# Altium footprint library con-molex-micro-fit-3_0.PCBLIB: 194 footprints (part 9 of 13)
Each footprint in its own frame and in the unit in brackets; x right, y up, seen from the top. Pads: shape width x height; smd on the part's side, far side on the other; paste and mask are expansions set on the pad; w line width, h text height; cw(c..) or ccw(c..) is an arc to the next point about the centre after c.
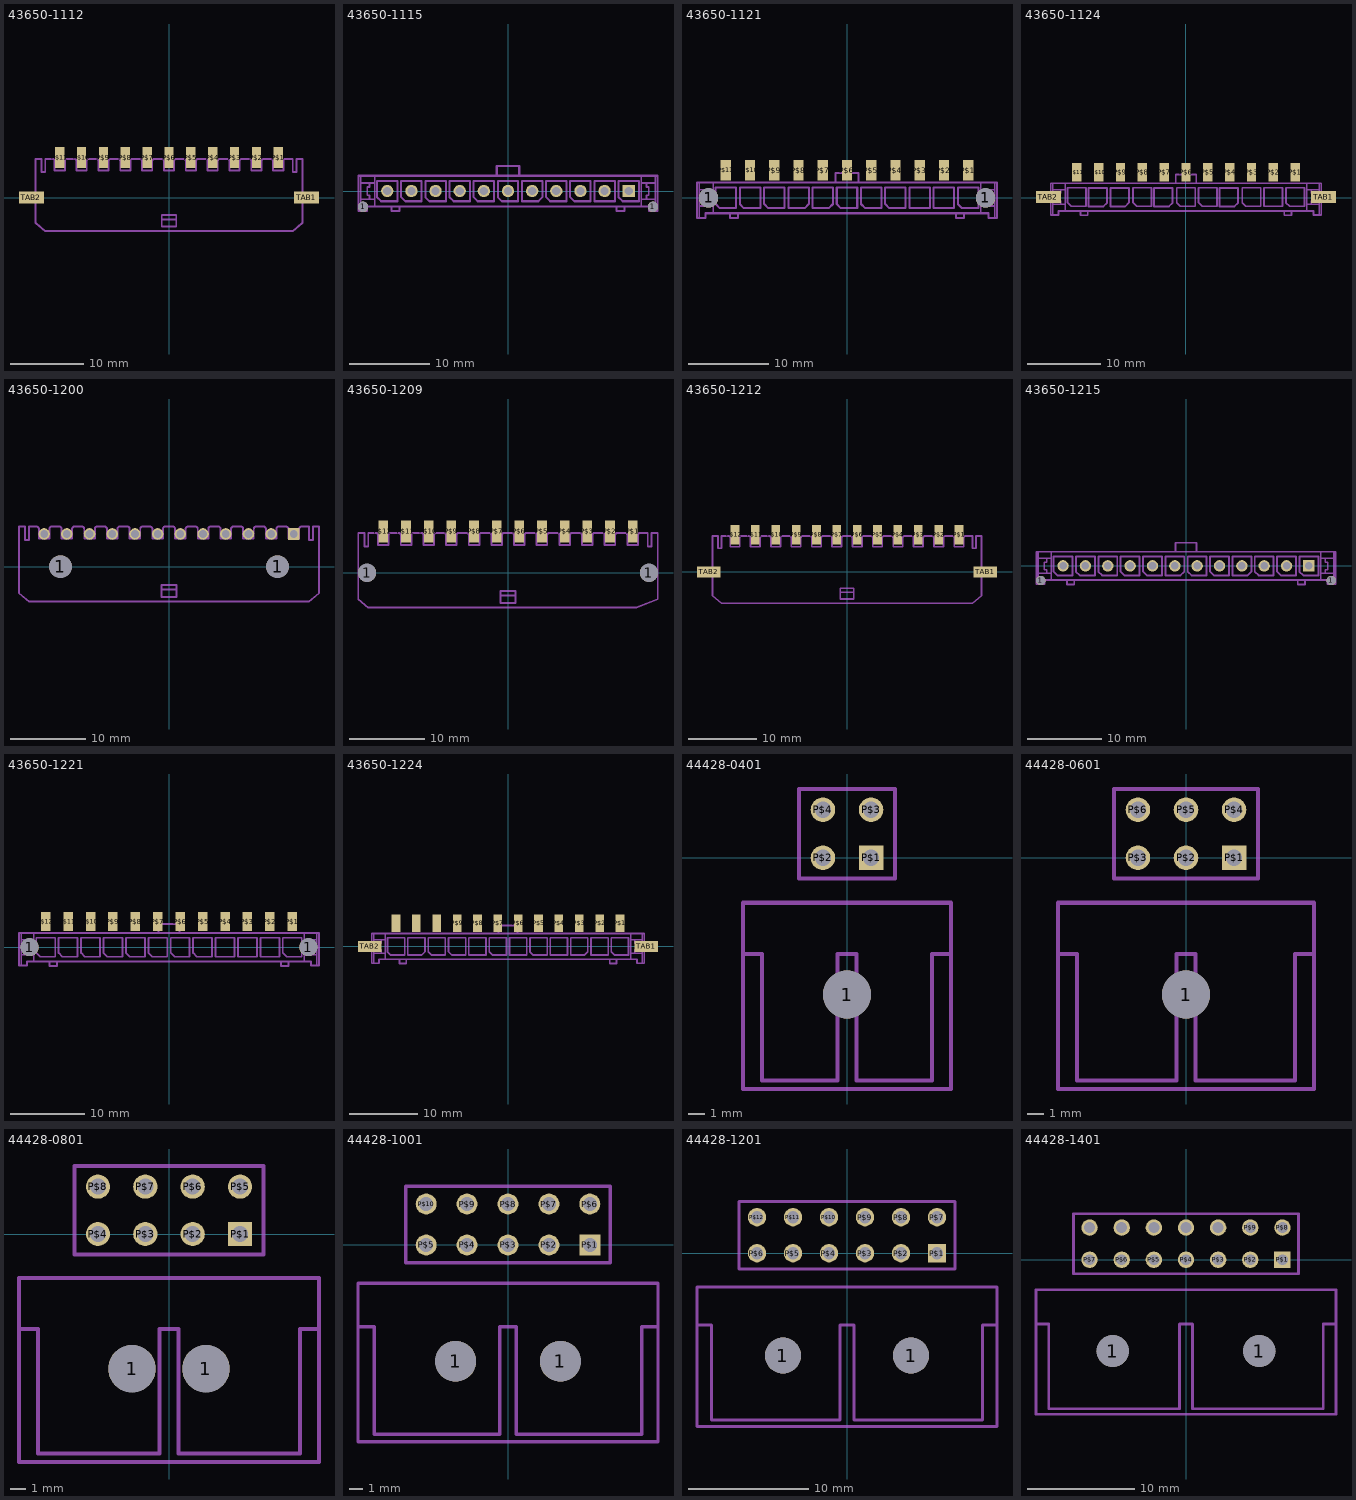
[diagram p8: the footprints below, top view; thin cyan lines are the x and y axes]

## 43650-1112 [mm]
pads (13):
  rect 1.27x2.92 smd: P$1(15,5.48) P$2(12,5.48) P$3(9,5.48) P$4(6,5.48) P$5(3,5.48) P$6(0,5.48) P$7(-3,5.48) P$8(-6,5.48) P$9(-9,5.48) P$10(-12,5.48) P$11(-15,5.48)
  rect 3.43x1.65 smd: TAB1(18.88,0) TAB2(-18.88,0)
Mechanical 2:
  lines w0.254: -1,-3 -1,-4 1,-4 1,-3 ; -1,-3 -1,-2.4 1,-2.4 1,-3 ; -1,-3 1,-3 ; -18.32,-3.5 -18.32,5.3 -17.5,5.3 -17.5,3.5 -17,3.5 -17,5.3 -16,5.3 cw(c-16,5) -15.7,5 -15.7,3.7 -14.3,3.7 -14.3,5 cw(c-14,5) -14,5.3 -13,5.3 cw(c-13,5) -12.7,5 -12.7,3.7 -11.3,3.7 -11.3,5 cw(c-11,5) -11,5.3 -10,5.3 cw(c-10,5) -9.7,5 -9.7,3.7 -8.3,3.7 -8.3,5 cw(c-8,5) -8,5.3 -7,5.3 cw(c-7,5) -6.7,5 -6.7,3.7 -5.3,3.7 -5.3,5 cw(c-5,5) -5,5.3 -4,5.3 cw(c-4,5) -3.7,5 -3.7,3.7 -2.3,3.7 -2.3,5 cw(c-2,5) -2,5.3 -1,5.3 cw(c-1,5) -0.7,5 -0.7,3.7 0.7,3.7 0.7,5 cw(c1,5) 1,5.3 2,5.3 cw(c2,5) 2.3,5 2.3,3.7 3.7,3.7 3.7,5 cw(c4,5) 4,5.3 5,5.3 cw(c5,5) 5.3,5 5.3,3.7 6.7,3.7 6.7,5 cw(c7,5) 7,5.3 8,5.3 cw(c8,5) 8.3,5 8.3,3.7 9.7,3.7 9.7,5 cw(c10,5) 10,5.3 11,5.3 cw(c11,5) 11.3,5 11.3,3.7 12.7,3.7 12.7,5 cw(c13,5) 13,5.3 14,5.3 cw(c13.95,4.95) 14.3,5 14.3,3.7 15.7,3.7 15.7,5 cw(c16,5) 16,5.3 17,5.3 17,3.5 17.5,3.5 17.5,5.3 18.32,5.3 18.32,-3.5 17,-4.6 -17,-4.6 -18.32,-3.5

## 43650-1115 [mm]
pads (13):
  round 1.27 hole 1.27: 1(-18,-1.96) 1(18,-1.96)
  rect 1.53x1.53 hole 1.02: P$1(15,0)
  round 1.53 hole 1.02: P$2(12,0) P$3(9,0) P$4(6,0) P$5(3,0) P$6(0,0) P$7(-3,0) P$8(-6,0) P$9(-9,0) P$10(-12,0) P$11(-15,0)
Mechanical 2:
  lines w0.2: -18.3,-2.47 -18.3,-1 ; -18.3,1.9 -18.3,1 ; -16.57,-1.9 -16.57,-1 ; -16.57,1.9 -16.57,1 ; 16.57,-1.9 16.57,-1 ; 16.57,1.9 16.57,1 ; 18.3,-2.47 18.3,-1 ; 18.3,1.9 18.3,1 ; -18.3,-1 -18.3,1 ; -18.3,-1 -17.2,-1 ; -18.3,1 -17.2,1 ; -17.2,-1 -16.57,-1 ; -17.2,-1 -17.2,-0.5 -17.5,-0.5 -17.5,0.5 -17.2,0.5 -17.2,1 ; -17.2,1 -16.57,1 ; -16.57,-1 -16.57,1 ; 16.57,-1 16.57,1 ; 16.57,-1 17.2,-1 ; 16.57,1 17.2,1 ; 17.2,-1 18.3,-1 ; 17.2,-1 17.2,-0.5 17.5,-0.5 17.5,0.5 17.2,0.5 17.2,1 ; 17.2,1 18.3,1 ; 18.3,-1 18.3,1
  lines w0.254: -14.5,-1.9 -13.5,-1.9 ; -14.5,-1.9 -16.57,-1.9 -17.5,-1.9 -17.5,-2.47 -18.3,-2.47 -18.575,-2.47 -18.575,1.9 -18.3,1.9 -16.57,1.9 -1.4,1.9 ; -14.5,-1.9 -14.5,-2.5 -13.5,-2.5 -13.5,-1.9 ; -13.5,-1.9 13.5,-1.9 ; -1.4,1.9 1.4,1.9 ; -1.4,1.9 -1.4,3.1 1.4,3.1 1.4,1.9 ; 1.4,1.9 16.57,1.9 18.3,1.9 18.575,1.9 18.575,-2.47 18.3,-2.47 17.5,-2.47 17.5,-1.9 16.57,-1.9 14.5,-1.9 ; 13.5,-1.9 14.5,-1.9 ; 13.5,-1.9 13.5,-2.5 14.5,-2.5 14.5,-1.9 ; -16.27,-0.762 -16.27,1.27 -13.73,1.27 -13.73,-1.27 -15.762,-1.27 -16.27,-0.762 ; -13.27,-0.762 -13.27,1.27 -10.73,1.27 -10.73,-1.27 -12.762,-1.27 -13.27,-0.762 ; -10.27,-0.762 -10.27,1.27 -7.73,1.27 -7.73,-1.27 -9.762,-1.27 -10.27,-0.762 ; -7.27,-0.762 -7.27,1.27 -4.73,1.27 -4.73,-1.27 -6.762,-1.27 -7.27,-0.762 ; -4.27,-0.762 -4.27,1.27 -1.73,1.27 -1.73,-1.27 -3.762,-1.27 -4.27,-0.762 ; -1.27,-0.762 -1.27,1.27 1.27,1.27 1.27,-1.27 -0.762,-1.27 -1.27,-0.762 ; 1.73,-1.27 1.73,1.27 4.27,1.27 4.27,-0.762 3.762,-1.27 1.73,-1.27 ; 4.73,-0.762 4.73,1.27 7.27,1.27 7.27,-1.27 5.238,-1.27 4.73,-0.762 ; 7.73,-0.762 7.73,1.27 10.27,1.27 10.27,-1.27 8.238,-1.27 7.73,-0.762 ; 10.73,-1.27 10.73,1.27 13.27,1.27 13.27,-1.27 10.73,-1.27 ; 13.73,-0.762 13.73,1.27 16.27,1.27 16.27,-1.27 14.238,-1.27 13.73,-0.762

## 43650-1121 [mm]
pads (13):
  round 2.41 hole 2.41: 1(-17.15,0) 1(17.15,0)
  rect 1.27x2.54 smd: P$1(15,3.43) P$2(12,3.43) P$3(9,3.43) P$4(6,3.43) P$5(3,3.43) P$6(0,3.43) P$7(-3,3.43) P$8(-6,3.43) P$9(-9,3.43) P$10(-12,3.43) P$11(-15,3.43)
Mechanical 2:
  lines w0.2: -18.3,-2.47 -18.3,-1 ; -18.3,1.9 -18.3,1 ; -16.57,-1.9 -16.57,-1 ; -16.57,1.9 -16.57,1 ; 16.57,-1.9 16.57,-1 ; 16.57,1.9 16.57,1 ; 18.3,-2.47 18.3,-1 ; 18.3,1.9 18.3,1 ; -18.3,-1 -18.3,1 ; -18.3,-1 -17.2,-1 ; -18.3,1 -17.2,1 ; -17.2,-1 -16.57,-1 ; -17.2,-1 -17.2,-0.5 -17.5,-0.5 -17.5,0.5 -17.2,0.5 -17.2,1 ; -17.2,1 -16.57,1 ; -16.57,-1 -16.57,1 ; 16.57,-1 16.57,1 ; 16.57,-1 17.2,-1 ; 16.57,1 17.2,1 ; 17.2,-1 18.3,-1 ; 17.2,-1 17.2,-0.5 17.5,-0.5 17.5,0.5 17.2,0.5 17.2,1 ; 17.2,1 18.3,1 ; 18.3,-1 18.3,1
  lines w0.254: -14.5,-1.9 -13.5,-1.9 ; -14.5,-1.9 -16.57,-1.9 -17.5,-1.9 -17.5,-2.47 -18.3,-2.47 -18.575,-2.47 -18.575,1.9 -18.3,1.9 -16.57,1.9 -1.4,1.9 ; -14.5,-1.9 -14.5,-2.5 -13.5,-2.5 -13.5,-1.9 ; -13.5,-1.9 13.5,-1.9 ; -1.4,1.9 1.4,1.9 ; -1.4,1.9 -1.4,3.1 1.4,3.1 1.4,1.9 ; 1.4,1.9 16.57,1.9 18.3,1.9 18.575,1.9 18.575,-2.47 18.3,-2.47 17.5,-2.47 17.5,-1.9 16.57,-1.9 14.5,-1.9 ; 13.5,-1.9 14.5,-1.9 ; 13.5,-1.9 13.5,-2.5 14.5,-2.5 14.5,-1.9 ; -16.27,-0.762 -16.27,1.27 -13.73,1.27 -13.73,-1.27 -15.762,-1.27 -16.27,-0.762 ; -13.27,-0.762 -13.27,1.27 -10.73,1.27 -10.73,-1.27 -12.762,-1.27 -13.27,-0.762 ; -10.27,-0.762 -10.27,1.27 -7.73,1.27 -7.73,-1.27 -9.762,-1.27 -10.27,-0.762 ; -7.27,-1.27 -7.27,1.27 -4.73,1.27 -4.73,-0.762 -5.238,-1.27 -7.27,-1.27 ; -4.27,-1.27 -4.27,1.27 -1.73,1.27 -1.73,-0.762 -2.238,-1.27 -4.27,-1.27 ; -1.27,-0.762 -1.27,1.27 1.27,1.27 1.27,-1.27 -0.762,-1.27 -1.27,-0.762 ; 1.73,-0.762 1.73,1.27 4.27,1.27 4.27,-1.27 2.238,-1.27 1.73,-0.762 ; 4.73,-0.762 4.73,1.27 7.27,1.27 7.27,-1.27 5.238,-1.27 4.73,-0.762 ; 7.73,-1.27 10.27,-1.27 10.27,1.27 7.73,1.27 7.73,-1.27 ; 10.73,-1.27 13.27,-1.27 13.27,1.27 10.73,1.27 10.73,-1.27 ; 13.73,-0.762 13.73,1.27 16.27,1.27 16.27,-1.27 14.238,-1.27 13.73,-0.762

## 43650-1124 [mm]
pads (13):
  rect 1.27x2.54 smd: P$1(15.036,3.503) P$2(12.036,3.503) P$3(9.036,3.503) P$4(6.036,3.503) P$5(3.036,3.503) P$6(0.036,3.503) P$7(-2.964,3.503) P$8(-5.964,3.503) P$9(-8.964,3.503) P$10(-11.964,3.503) P$11(-14.964,3.503)
  rect 3.43x1.65 smd: TAB1(18.926,0.073) TAB2(-18.854,0.073)
Mechanical 2:
  lines w0.2: -18.264,-2.397 -18.264,-0.927 ; -18.264,1.973 -18.264,1.073 ; -16.534,-1.827 -16.534,-0.927 ; -16.534,1.973 -16.534,1.073 ; 16.607,-1.827 16.607,-0.927 ; 16.607,1.973 16.607,1.073 ; 18.337,-2.397 18.337,-0.927 ; 18.337,1.973 18.337,1.073 ; -18.264,-0.927 -18.264,1.073 ; -18.264,-0.927 -17.164,-0.927 ; -18.264,1.073 -17.164,1.073 ; -17.164,-0.927 -16.534,-0.927 ; -17.164,-0.927 -17.164,-0.427 -17.464,-0.427 -17.464,0.573 -17.164,0.573 -17.164,1.073 ; -17.164,1.073 -16.534,1.073 ; -16.534,-0.927 -16.534,1.073 ; 16.607,-0.927 16.607,1.073 ; 16.607,-0.927 17.236,-0.927 ; 16.607,1.073 17.236,1.073 ; 17.236,-0.927 18.337,-0.927 ; 17.236,-0.927 17.236,-0.427 17.536,-0.427 17.536,0.573 17.236,0.573 17.236,1.073 ; 17.236,1.073 18.337,1.073 ; 18.337,-0.927 18.337,1.073
  lines w0.254: -14.464,-1.827 -13.464,-1.827 ; -14.464,-1.827 -16.534,-1.827 -17.464,-1.827 -17.464,-2.397 -18.264,-2.397 -18.539,-2.397 -18.539,1.973 -18.264,1.973 -16.534,1.973 -1.364,1.973 ; -14.464,-1.827 -14.464,-2.427 -13.464,-2.427 -13.464,-1.827 ; -13.464,-1.827 13.536,-1.827 ; -1.364,1.973 1.436,1.973 ; -1.364,1.973 -1.364,3.173 1.436,3.173 1.436,1.973 ; 1.436,1.973 16.607,1.973 18.337,1.973 18.611,1.973 18.611,-2.397 18.337,-2.397 17.536,-2.397 17.536,-1.827 16.607,-1.827 14.536,-1.827 ; 13.536,-1.827 14.536,-1.827 ; 13.536,-1.827 13.536,-2.427 14.536,-2.427 14.536,-1.827 ; -16.234,-0.689 -16.234,1.343 -13.694,1.343 -13.694,-1.197 -15.726,-1.197 -16.234,-0.689 ; -13.343,-1.234 -13.343,1.306 -10.803,1.306 -10.803,-0.726 -11.311,-1.234 -13.343,-1.234 ; -10.343,-1.234 -10.343,1.306 -7.803,1.306 -7.803,-0.726 -8.311,-1.234 -10.343,-1.234 ; -7.234,-0.689 -7.234,1.343 -4.694,1.343 -4.694,-1.197 -6.726,-1.197 -7.234,-0.689 ; -4.343,-1.234 -4.343,1.306 -1.803,1.306 -1.803,-0.726 -2.311,-1.234 -4.343,-1.234 ; -1.234,-0.689 -1.234,1.343 1.306,1.343 1.306,-1.197 -0.726,-1.197 -1.234,-0.689 ; 1.766,-0.689 1.766,1.343 4.306,1.343 4.306,-1.197 2.274,-1.197 1.766,-0.689 ; 4.657,-1.234 4.657,1.306 7.197,1.306 7.197,-0.726 6.689,-1.234 4.657,-1.234 ; 7.766,-0.689 7.766,1.343 10.306,1.343 10.306,-1.197 8.274,-1.197 7.766,-0.689 ; 10.766,-1.197 13.306,-1.197 13.306,1.343 10.766,1.343 10.766,-1.197 ; 13.766,-0.689 13.766,1.343 16.306,1.343 16.306,-1.197 14.274,-1.197 13.766,-0.689

## 43650-1200 [mm]
pads (14):
  round 3 hole 3: 1(-14.35,0) 1(14.35,0)
  rect 1.53x1.53 hole 1.02: P$1(16.5,4.32)
  round 1.53 hole 1.02: P$2(13.5,4.32) P$3(10.5,4.32) P$4(7.5,4.32) P$5(4.5,4.32) P$6(1.5,4.32) P$7(-1.5,4.32) P$8(-4.5,4.32) P$9(-7.5,4.32) P$10(-10.5,4.32) P$11(-13.5,4.32) P$12(-16.5,4.32)
Mechanical 2:
  lines w0.254: -1,-3 -1,-4 1,-4 1,-3 ; -1,-3 -1,-2.4 1,-2.4 1,-3 ; -1,-3 1,-3 ; -19.82,-3.5 -19.82,5.3 -19,5.3 -19,3.5 -18.5,3.5 -18.5,5.3 -17.5,5.3 cw(c-17.5,5) -17.2,5 -17.2,3.7 -15.8,3.7 -15.8,5 cw(c-15.5,5) -15.5,5.3 -14.5,5.3 cw(c-14.5,5) -14.2,5 -14.2,3.7 -12.8,3.7 -12.8,5 cw(c-12.5,5) -12.5,5.3 -11.5,5.3 cw(c-11.5,5) -11.2,5 -11.2,3.7 -9.8,3.7 -9.8,5 cw(c-9.5,5) -9.5,5.3 -8.5,5.3 cw(c-8.5,5) -8.2,5 -8.2,3.7 -6.8,3.7 -6.8,5 cw(c-6.5,5) -6.5,5.3 -5.5,5.3 cw(c-5.5,5) -5.2,5 -5.2,3.7 -3.8,3.7 -3.8,5 cw(c-3.5,5) -3.5,5.3 -2.5,5.3 cw(c-2.5,5) -2.2,5 -2.2,3.7 -0.8,3.7 -0.8,5 cw(c-0.5,5) -0.5,5.3 0.5,5.3 cw(c0.5,5) 0.8,5 0.8,3.7 2.2,3.7 2.2,5 cw(c2.5,5) 2.5,5.3 3.5,5.3 cw(c3.5,5) 3.8,5 3.8,3.7 5.2,3.7 5.2,5 cw(c5.5,5) 5.5,5.3 6.5,5.3 cw(c6.5,5) 6.8,5 6.8,3.7 8.2,3.7 8.2,5 cw(c8.5,5) 8.5,5.3 9.5,5.3 cw(c9.5,5) 9.8,5 9.8,3.7 11.2,3.7 11.2,5 cw(c11.5,5) 11.5,5.3 12.5,5.3 cw(c12.5,5) 12.8,5 12.8,3.7 14.2,3.7 14.2,5 cw(c14.5,5) 14.5,5.3 15.5,5.3 cw(c15.45,4.95) 15.8,5 15.8,3.7 17.2,3.7 17.2,5 cw(c17.5,5) 17.5,5.3 18.5,5.3 18.5,3.5 19,3.5 19,5.3 19.82,5.3 19.82,-3.5 18.5,-4.6 -18.5,-4.6 -19.82,-3.5

## 43650-1209 [mm]
pads (14):
  round 2.41 hole 2.41: 1(-18.65,0) 1(18.65,0)
  rect 1.27x2.92 smd: P$1(16.5,5.48) P$2(13.5,5.48) P$3(10.5,5.48) P$4(7.5,5.48) P$5(4.5,5.48) P$6(1.5,5.48) P$7(-1.5,5.48) P$8(-4.5,5.48) P$9(-7.5,5.48) P$10(-10.5,5.48) P$11(-13.5,5.48) P$12(-16.5,5.48)
Mechanical 2:
  lines w0.254: -1,-3 -1,-4 1,-4 1,-3 ; -1,-3 -1,-2.4 1,-2.4 1,-3 ; -1,-3 1,-3 ; -19.82,-3.5 -19.82,5.3 -19,5.3 -19,3.5 -18.5,3.5 -18.5,5.3 -17.5,5.3 cw(c-17.5,5) -17.2,5 -17.2,3.7 -15.8,3.7 -15.8,5 cw(c-15.5,5) -15.5,5.3 -14.5,5.3 cw(c-14.5,5) -14.2,5 -14.2,3.7 -12.8,3.7 -12.8,5 cw(c-12.5,5) -12.5,5.3 -11.5,5.3 cw(c-11.5,5) -11.2,5 -11.2,3.7 -9.8,3.7 -9.8,5 cw(c-9.5,5) -9.5,5.3 -8.5,5.3 cw(c-8.5,5) -8.2,5 -8.2,3.7 -6.8,3.7 -6.8,5 cw(c-6.5,5) -6.5,5.3 -5.5,5.3 cw(c-5.5,5) -5.2,5 -5.2,3.7 -3.8,3.7 -3.8,5 cw(c-3.5,5) -3.5,5.3 -2.5,5.3 cw(c-2.5,5) -2.2,5 -2.2,3.7 -0.8,3.7 -0.8,5 cw(c-0.5,5) -0.5,5.3 0.5,5.3 cw(c0.5,5) 0.8,5 0.8,3.7 2.2,3.7 2.2,5 cw(c2.5,5) 2.5,5.3 3.5,5.3 cw(c3.5,5) 3.8,5 3.8,3.7 5.2,3.7 5.2,5 cw(c5.5,5) 5.5,5.3 6.5,5.3 cw(c6.5,5) 6.8,5 6.8,3.7 8.2,3.7 8.2,5 cw(c8.5,5) 8.5,5.3 9.5,5.3 cw(c9.5,5) 9.8,5 9.8,3.7 11.2,3.7 11.2,5 cw(c11.5,5) 11.5,5.3 12.5,5.3 cw(c12.5,5) 12.8,5 12.8,3.7 14.2,3.7 14.2,5 cw(c14.5,5) 14.5,5.3 15.5,5.3 cw(c15.45,4.95) 15.8,5 15.8,3.7 17.2,3.7 17.2,5 cw(c17.5,5) 17.5,5.3 18.5,5.3 18.5,3.5 19,3.5 19,5.3 19.82,5.3 19.82,-3.5 17,-4.6 -18.5,-4.6 -19.82,-3.5

## 43650-1212 [mm]
pads (14):
  rect 1.27x2.92 smd: P$1(16.5,5.48) P$2(13.5,5.48) P$3(10.5,5.48) P$4(7.5,5.48) P$5(4.5,5.48) P$6(1.5,5.48) P$7(-1.5,5.48) P$8(-4.5,5.48) P$9(-7.5,5.48) P$10(-10.5,5.48) P$11(-13.5,5.48) P$12(-16.5,5.48)
  rect 3.43x1.65 smd: TAB1(20.38,0) TAB2(-20.38,0)
Mechanical 2:
  lines w0.254: -1,-3 -1,-4 1,-4 1,-3 ; -1,-3 -1,-2.4 1,-2.4 1,-3 ; -1,-3 1,-3 ; -19.82,-3.5 -19.82,5.3 -19,5.3 -19,3.5 -18.5,3.5 -18.5,5.3 -17.5,5.3 cw(c-17.5,5) -17.2,5 -17.2,3.7 -15.8,3.7 -15.8,5 cw(c-15.5,5) -15.5,5.3 -14.5,5.3 cw(c-14.5,5) -14.2,5 -14.2,3.7 -12.8,3.7 -12.8,5 cw(c-12.5,5) -12.5,5.3 -11.5,5.3 cw(c-11.5,5) -11.2,5 -11.2,3.7 -9.8,3.7 -9.8,5 cw(c-9.5,5) -9.5,5.3 -8.5,5.3 cw(c-8.5,5) -8.2,5 -8.2,3.7 -6.8,3.7 -6.8,5 cw(c-6.5,5) -6.5,5.3 -5.5,5.3 cw(c-5.5,5) -5.2,5 -5.2,3.7 -3.8,3.7 -3.8,5 cw(c-3.5,5) -3.5,5.3 -2.5,5.3 cw(c-2.5,5) -2.2,5 -2.2,3.7 -0.8,3.7 -0.8,5 cw(c-0.5,5) -0.5,5.3 0.5,5.3 cw(c0.5,5) 0.8,5 0.8,3.7 2.2,3.7 2.2,5 cw(c2.5,5) 2.5,5.3 3.5,5.3 cw(c3.5,5) 3.8,5 3.8,3.7 5.2,3.7 5.2,5 cw(c5.5,5) 5.5,5.3 6.5,5.3 cw(c6.5,5) 6.8,5 6.8,3.7 8.2,3.7 8.2,5 cw(c8.5,5) 8.5,5.3 9.5,5.3 cw(c9.5,5) 9.8,5 9.8,3.7 11.2,3.7 11.2,5 cw(c11.5,5) 11.5,5.3 12.5,5.3 cw(c12.5,5) 12.8,5 12.8,3.7 14.2,3.7 14.2,5 cw(c14.5,5) 14.5,5.3 15.5,5.3 cw(c15.45,4.95) 15.8,5 15.8,3.7 17.2,3.7 17.2,5 cw(c17.5,5) 17.5,5.3 18.5,5.3 18.5,3.5 19,3.5 19,5.3 19.82,5.3 19.82,-3.5 18.5,-4.6 -18.5,-4.6 -19.82,-3.5

## 43650-1215 [mil]
pads (14):
  round 50 hole 50: 1(-767.72,-77.17) 1(767.72,-77.17)
  rect 60.24x60.24 hole 40.16: P$1(649.61,0)
  round 60.24 hole 40.16: P$2(531.5,0) P$3(413.39,0) P$4(295.28,0) P$5(177.17,0) P$6(59.06,0) P$7(-59.06,0) P$8(-177.17,0) P$9(-295.28,0) P$10(-413.39,0) P$11(-531.5,0) P$12(-649.61,0)
Mechanical 2:
  lines w7.87: -779.53,-97.24 -779.53,-39.37 ; -779.53,74.8 -779.53,39.37 ; -711.42,-74.8 -711.42,-39.37 ; -711.42,74.8 -711.42,39.37 ; 711.42,-74.8 711.42,-39.37 ; 711.42,74.8 711.42,39.37 ; 779.53,-97.24 779.53,-39.37 ; 779.53,74.8 779.53,39.37 ; -779.53,-39.37 -779.53,39.37 ; -779.53,-39.37 -736.22,-39.37 ; -779.53,39.37 -736.22,39.37 ; -736.22,-39.37 -711.42,-39.37 ; -736.22,-39.37 -736.22,-19.69 -748.03,-19.69 -748.03,19.69 -736.22,19.69 -736.22,39.37 ; -736.22,39.37 -711.42,39.37 ; -711.42,-39.37 -711.42,39.37 ; 711.42,-39.37 711.42,39.37 ; 711.42,-39.37 736.22,-39.37 ; 711.42,39.37 736.22,39.37 ; 736.22,-39.37 779.53,-39.37 ; 736.22,-39.37 736.22,-19.69 748.03,-19.69 748.03,19.69 736.22,19.69 736.22,39.37 ; 736.22,39.37 779.53,39.37 ; 779.53,-39.37 779.53,39.37
  lines w10: -629.92,-74.8 -590.55,-74.8 ; -629.92,-74.8 -711.42,-74.8 -748.03,-74.8 -748.03,-97.24 -779.53,-97.24 -790.35,-97.24 -790.35,74.8 -779.53,74.8 -711.42,74.8 -55.12,74.8 ; -629.92,-74.8 -629.92,-98.43 -590.55,-98.43 -590.55,-74.8 ; -590.55,-74.8 590.55,-74.8 ; -55.12,74.8 55.12,74.8 ; -55.12,74.8 -55.12,122.05 55.12,122.05 55.12,74.8 ; 55.12,74.8 711.42,74.8 779.53,74.8 790.35,74.8 790.35,-97.24 779.53,-97.24 748.03,-97.24 748.03,-74.8 711.42,-74.8 629.92,-74.8 ; 590.55,-74.8 629.92,-74.8 ; 590.55,-74.8 590.55,-98.43 629.92,-98.43 629.92,-74.8 ; -699.61,-30 -699.61,50 -599.61,50 -599.61,-50 -679.61,-50 -699.61,-30 ; -581.5,-30 -581.5,50 -481.5,50 -481.5,-50 -561.5,-50 -581.5,-30 ; -463.39,-30 -463.39,50 -363.39,50 -363.39,-50 -443.39,-50 -463.39,-30 ; -345.28,-30 -345.28,50 -245.28,50 -245.28,-50 -325.28,-50 -345.28,-30 ; -227.17,-30 -227.17,50 -127.17,50 -127.17,-50 -207.17,-50 -227.17,-30 ; -109.06,-50 -109.06,50 -9.06,50 -9.06,-30 -29.06,-50 -109.06,-50 ; 9.06,-30 9.06,50 109.06,50 109.06,-50 29.06,-50 9.06,-30 ; 127.17,-30 127.17,50 227.17,50 227.17,-50 147.17,-50 127.17,-30 ; 245.28,-50 245.28,50 345.28,50 345.28,-30 325.28,-50 245.28,-50 ; 363.39,-30 363.39,50 463.39,50 463.39,-50 383.39,-50 363.39,-30 ; 481.5,-30 481.5,50 581.5,50 581.5,-50 501.5,-50 481.5,-30 ; 599.61,-30 599.61,50 699.61,50 699.61,-50 619.61,-50 599.61,-30

## 43650-1221 [mm]
pads (14):
  round 2.41 hole 2.41: 1(-18.65,0) 1(18.65,0)
  rect 1.27x2.54 smd: P$1(16.5,3.43) P$2(13.5,3.43) P$3(10.5,3.43) P$4(7.5,3.43) P$5(4.5,3.43) P$6(1.5,3.43) P$7(-1.5,3.43) P$8(-4.5,3.43) P$9(-7.5,3.43) P$10(-10.5,3.43) P$11(-13.5,3.43) P$12(-16.5,3.43)
Mechanical 2:
  lines w0.2: -19.8,-2.47 -19.8,-1 ; -19.8,1.9 -19.8,1 ; -18.07,-1.9 -18.07,-1 ; -18.07,1.9 -18.07,1 ; 18.07,-1.9 18.07,-1 ; 18.07,1.9 18.07,1 ; 19.8,-2.47 19.8,-1 ; 19.8,1.9 19.8,1 ; -19.8,-1 -19.8,1 ; -19.8,-1 -18.7,-1 ; -19.8,1 -18.7,1 ; -18.7,-1 -18.07,-1 ; -18.7,-1 -18.7,-0.5 -19,-0.5 -19,0.5 -18.7,0.5 -18.7,1 ; -18.7,1 -18.07,1 ; -18.07,-1 -18.07,1 ; 18.07,-1 18.07,1 ; 18.07,-1 18.7,-1 ; 18.07,1 18.7,1 ; 18.7,-1 19.8,-1 ; 18.7,-1 18.7,-0.5 19,-0.5 19,0.5 18.7,0.5 18.7,1 ; 18.7,1 19.8,1 ; 19.8,-1 19.8,1
  lines w0.254: -16,-1.9 -15,-1.9 ; -16,-1.9 -18.07,-1.9 -19,-1.9 -19,-2.47 -19.8,-2.47 -20.075,-2.47 -20.075,1.9 -19.8,1.9 -18.07,1.9 -1.4,1.9 ; -16,-1.9 -16,-2.5 -15,-2.5 -15,-1.9 ; -15,-1.9 15,-1.9 ; -1.4,1.9 1.4,1.9 ; -1.4,1.9 -1.4,3.1 1.4,3.1 1.4,1.9 ; 1.4,1.9 18.07,1.9 19.8,1.9 20.075,1.9 20.075,-2.47 19.8,-2.47 19,-2.47 19,-1.9 18.07,-1.9 16,-1.9 ; 15,-1.9 16,-1.9 ; 15,-1.9 15,-2.5 16,-2.5 16,-1.9 ; -17.77,-0.762 -17.77,1.27 -15.23,1.27 -15.23,-1.27 -17.262,-1.27 -17.77,-0.762 ; -14.77,-0.762 -14.77,1.27 -12.23,1.27 -12.23,-1.27 -14.262,-1.27 -14.77,-0.762 ; -11.77,-0.762 -11.77,1.27 -9.23,1.27 -9.23,-1.27 -11.262,-1.27 -11.77,-0.762 ; -8.77,-0.762 -8.77,1.27 -6.23,1.27 -6.23,-1.27 -8.262,-1.27 -8.77,-0.762 ; -5.77,-0.762 -5.77,1.27 -3.23,1.27 -3.23,-1.27 -5.262,-1.27 -5.77,-0.762 ; -2.77,-0.762 -2.77,1.27 -0.23,1.27 -0.23,-1.27 -2.262,-1.27 -2.77,-0.762 ; 0.23,-0.762 0.23,1.27 2.77,1.27 2.77,-1.27 0.738,-1.27 0.23,-0.762 ; 3.23,-0.762 3.23,1.27 5.77,1.27 5.77,-1.27 3.738,-1.27 3.23,-0.762 ; 6.23,-1.27 8.77,-1.27 8.77,1.27 6.23,1.27 6.23,-1.27 ; 9.23,-1.27 11.77,-1.27 11.77,1.27 9.23,1.27 9.23,-1.27 ; 12.23,-1.27 14.77,-1.27 14.77,1.27 12.23,1.27 12.23,-1.27 ; 15.23,-0.762 15.23,1.27 17.77,1.27 17.77,-1.27 15.738,-1.27 15.23,-0.762

## 43650-1224 [mm]
pads (14):
  rect 1.27x2.54 smd: P$1(16.5,3.43) P$2(13.5,3.43) P$3(10.5,3.43) P$4(7.5,3.43) P$5(4.5,3.43) P$6(1.5,3.43) P$7(-1.5,3.43) P$8(-4.5,3.43) P$9(-7.5,3.43) P$10(-10.5,3.43) P$11(-13.5,3.43) P$12(-16.5,3.43)
  rect 3.43x1.65 smd: TAB1(20.39,0) TAB2(-20.39,0)
Mechanical 2:
  lines w0.2: -19.8,-2.47 -19.8,-1 ; -19.8,1.9 -19.8,1 ; -18.07,-1.9 -18.07,-1 ; -18.07,1.9 -18.07,1 ; 18.07,-1.9 18.07,-1 ; 18.07,1.9 18.07,1 ; 19.8,-2.47 19.8,-1 ; 19.8,1.9 19.8,1 ; -19.8,-1 -19.8,1 ; -19.8,-1 -18.7,-1 ; -19.8,1 -18.7,1 ; -18.7,-1 -18.07,-1 ; -18.7,-1 -18.7,-0.5 -19,-0.5 -19,0.5 -18.7,0.5 -18.7,1 ; -18.7,1 -18.07,1 ; -18.07,-1 -18.07,1 ; 18.07,-1 18.07,1 ; 18.07,-1 18.7,-1 ; 18.07,1 18.7,1 ; 18.7,-1 19.8,-1 ; 18.7,-1 18.7,-0.5 19,-0.5 19,0.5 18.7,0.5 18.7,1 ; 18.7,1 19.8,1 ; 19.8,-1 19.8,1
  lines w0.254: -16,-1.9 -15,-1.9 ; -16,-1.9 -18.07,-1.9 -19,-1.9 -19,-2.47 -19.8,-2.47 -20.075,-2.47 -20.075,1.9 -19.8,1.9 -18.07,1.9 -1.4,1.9 ; -16,-1.9 -16,-2.5 -15,-2.5 -15,-1.9 ; -15,-1.9 15,-1.9 ; -1.4,1.9 1.4,1.9 ; -1.4,1.9 -1.4,3.1 1.4,3.1 1.4,1.9 ; 1.4,1.9 18.07,1.9 19.8,1.9 20.075,1.9 20.075,-2.47 19.8,-2.47 19,-2.47 19,-1.9 18.07,-1.9 16,-1.9 ; 15,-1.9 16,-1.9 ; 15,-1.9 15,-2.5 16,-2.5 16,-1.9 ; -17.77,-0.762 -17.77,1.27 -15.23,1.27 -15.23,-1.27 -17.262,-1.27 -17.77,-0.762 ; -11.77,-0.762 -11.77,1.27 -9.23,1.27 -9.23,-1.27 -11.262,-1.27 -11.77,-0.762 ; -8.77,-0.762 -8.77,1.27 -6.23,1.27 -6.23,-1.27 -8.262,-1.27 -8.77,-0.762 ; -5.77,-1.27 -3.23,-1.27 -3.23,1.27 -5.77,1.27 -5.77,-1.27 ; -2.77,-0.762 -2.77,1.27 -0.23,1.27 -0.23,-1.27 -2.262,-1.27 -2.77,-0.762 ; 0.23,-1.27 2.77,-1.27 2.77,1.27 0.23,1.27 0.23,-1.27 ; 3.23,-0.762 3.23,1.27 5.77,1.27 5.77,-1.27 3.738,-1.27 3.23,-0.762 ; 6.23,-1.27 8.77,-1.27 8.77,1.27 6.23,1.27 6.23,-1.27 ; 12.23,-1.27 14.77,-1.27 14.77,1.27 12.23,1.27 12.23,-1.27 ; 15.23,-0.762 15.23,1.27 17.77,1.27 17.77,-1.27 15.738,-1.27 15.23,-0.762
Mechanical 3:
  lines w0.254: -14.77,-1.27 -14.77,1.27 -12.23,1.27 -12.23,-0.762 -12.738,-1.27 -14.77,-1.27 ; 9.23,-1.27 9.23,1.27 11.77,1.27 11.77,-0.762 11.262,-1.27 9.23,-1.27

## 44428-0401 [mm]
pads (5):
  round 3 hole 3: 1(0,-8.53)
  rect 1.53x1.53 hole 1.02: P$1(1.5,0)
  round 1.53 hole 1.02: P$2(-1.5,0) P$3(1.5,3) P$4(-1.5,3)
Mechanical 2:
  lines w0.254: -6.5,-6 -6.5,-2.8 6.5,-2.8 6.5,-6 ; -6.5,-6 -6.5,-14.43 6.5,-14.43 6.5,-6 ; -6.5,-6 -5.3,-6 -5.3,-13.9 -0.6,-13.9 -0.6,-6 0.6,-6 0.6,-13.9 5.3,-13.9 5.3,-6 6.5,-6 ; -3,-1.3 3,-1.3 3,4.3 -3,4.3 -3,-1.3

## 44428-0601 [mm]
pads (7):
  round 3 hole 3: 1(0,-8.53)
  rect 1.53x1.53 hole 1.02: P$1(3,0)
  round 1.53 hole 1.02: P$2(0,0) P$3(-3,0) P$4(3,3) P$5(0,3) P$6(-3,3)
Mechanical 2:
  lines w0.254: -8,-6 -8,-2.8 8,-2.8 8,-6 ; -8,-6 -8,-14.43 8,-14.43 8,-6 ; -8,-6 -6.8,-6 -6.8,-13.9 -0.6,-13.9 -0.6,-6 0.6,-6 0.6,-13.9 6.8,-13.9 6.8,-6 8,-6 ; -4.5,-1.3 4.5,-1.3 4.5,4.3 -4.5,4.3 -4.5,-1.3

## 44428-0801 [mm]
pads (10):
  round 3 hole 3: 1(-2.34,-8.53) 1(2.34,-8.53)
  rect 1.53x1.53 hole 1.02: P$1(4.5,0)
  round 1.53 hole 1.02: P$2(1.5,0) P$3(-1.5,0) P$4(-4.5,0) P$5(4.5,3) P$6(1.5,3) P$7(-1.5,3) P$8(-4.5,3)
Mechanical 2:
  lines w0.254: -9.5,-6 -9.5,-2.8 9.5,-2.8 9.5,-6 ; -9.5,-6 -9.5,-14.43 9.5,-14.43 9.5,-6 ; -9.5,-6 -8.3,-6 -8.3,-13.9 -0.6,-13.9 -0.6,-6 0.6,-6 0.6,-13.9 8.3,-13.9 8.3,-6 9.5,-6 ; -6,-1.3 6,-1.3 6,4.3 -6,4.3 -6,-1.3

## 44428-1001 [mm]
pads (12):
  round 3 hole 3: 1(-3.84,-8.53) 1(3.84,-8.53)
  rect 1.53x1.53 hole 1.02: P$1(6,0)
  round 1.53 hole 1.02: P$2(3,0) P$3(0,0) P$4(-3,0) P$5(-6,0) P$6(6,3) P$7(3,3) P$8(0,3) P$9(-3,3) P$10(-6,3)
Mechanical 2:
  lines w0.254: -11,-6 -11,-2.8 11,-2.8 11,-6 ; -11,-6 -11,-14.43 11,-14.43 11,-6 ; -11,-6 -9.8,-6 -9.8,-13.9 -0.6,-13.9 -0.6,-6 0.6,-6 0.6,-13.9 9.8,-13.9 9.8,-6 11,-6 ; -7.5,-1.3 7.5,-1.3 7.5,4.3 -7.5,4.3 -7.5,-1.3

## 44428-1201 [mm]
pads (14):
  round 3 hole 3: 1(-5.34,-8.53) 1(5.34,-8.53)
  rect 1.53x1.53 hole 1.02: P$1(7.5,0)
  round 1.53 hole 1.02: P$2(4.5,0) P$3(1.5,0) P$4(-1.5,0) P$5(-4.5,0) P$6(-7.5,0) P$7(7.5,3) P$8(4.5,3) P$9(1.5,3) P$10(-1.5,3) P$11(-4.5,3) P$12(-7.5,3)
Mechanical 2:
  lines w0.254: -12.5,-6 -12.5,-2.8 12.5,-2.8 12.5,-6 ; -12.5,-6 -12.5,-14.43 12.5,-14.43 12.5,-6 ; -12.5,-6 -11.3,-6 -11.3,-13.9 -0.6,-13.9 -0.6,-6 0.6,-6 0.6,-13.9 11.3,-13.9 11.3,-6 12.5,-6 ; -9,-1.3 9,-1.3 9,4.3 -9,4.3 -9,-1.3

## 44428-1401 [mm]
pads (16):
  round 3 hole 3: 1(-6.84,-8.53) 1(6.84,-8.53)
  rect 1.53x1.53 hole 1.02: P$1(9,0)
  round 1.53 hole 1.02: P$2(6,0) P$3(3,0) P$4(0,0) P$5(-3,0) P$6(-6,0) P$7(-9,0) P$8(9,3) P$9(6,3) P$10(3,3) P$11(0,3) P$12(-3,3) P$13(-6,3) P$14(-9,3)
Mechanical 2:
  lines w0.254: -14,-6 -14,-2.8 14,-2.8 14,-6 ; -14,-6 -14,-14.43 14,-14.43 14,-6 ; -14,-6 -12.8,-6 -12.8,-13.9 -0.6,-13.9 -0.6,-6 0.6,-6 0.6,-13.9 12.8,-13.9 12.8,-6 14,-6 ; -10.5,-1.3 10.5,-1.3 10.5,4.3 -10.5,4.3 -10.5,-1.3